# Altium footprint library microUSB.PcbLib: 1 footprints
Each footprint in its own frame and in the unit in brackets; x right, y up, seen from the top. Pads: shape width x height; smd on the part's side, far side on the other; paste and mask are expansions set on the pad; w line width, h text height; cw(c..) or ccw(c..) is an arc to the next point about the centre after c.
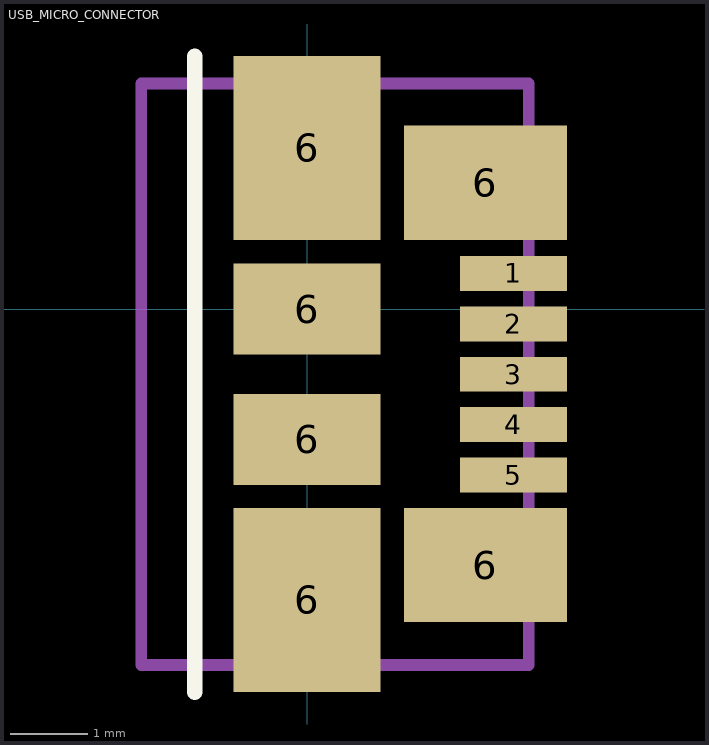
[diagram p0: the footprint, top view; thin cyan lines are the x and y axes]

## USB_MICRO_CONNECTOR [mm] "MOLEX - 47346-0001 - RECEPTACLE, MICRO USB B, BOTTOM MOUNT"
pads (11):
  rect 1.38x0.45 smd: 1(2.66,0.46) 2(2.66,-0.19) 3(2.66,-0.84) 4(2.66,-1.49) 5(2.66,-2.14)
  rect 1.9x2.375 smd: 6(0,-3.75) 6(0,2.08)
  rect 1.9x1.175 smd: 6(0,-1.68) 6(0,0)
  rect 2.1x1.475 smd: 6(2.3,-3.3) 6(2.3,1.63)
Top Overlay:
  lines w0.2: -1.45,-4.94 -1.45,3.26
Mechanical 1:
  lines w0.15: -2.14,-4.59 2.86,-4.59 2.86,2.91 -2.14,2.91 -2.14,-4.59
3D body: height 2.69, standoff -0.25, extent -2.325,-4.815 3.105,3.165